# EAGLE library part VCNL4040 (library FlashPCB_Sensors)
VCNL4040M3OE -Optical Sensor Ambient 550nm IÃƒÆ’Ã¢â‚¬Å¡Ãƒâ€šÃ‚Â²C 8-SMD Module Technical Specifications: Voltage Supply: 2.5v - 3.6v Component Search: [DATA SHEET NAME] <[FLASHPCB URL]> Datasheet: vcnl4040.pdf <https://www.vishay.com/docs/84274/vcnl4040.pdf>
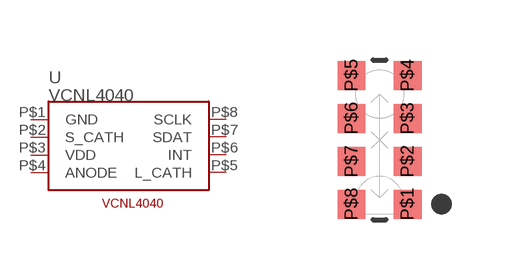
[diagram p29: symbol with the pads of VCNL4040M3OE; footprint VCNL4040M3OE]

Designator prefix U

## VCNL4040  [VCNL4040M3OE]
P$1  GND  pwr
P$2  S_CATH
P$3  VDD  pwr
P$4  ANODE
P$5  L_CATH
P$6  INT
P$7  SDAT
P$8  SCLK

## Footprint VCNL4040M3OE (pad centres in mm)
smd 0.7 x 0.725: P$1 0.7,-1.613; P$2 0.7,-0.537; P$3 0.7,0.537; P$4 0.7,1.613; P$5 -0.7,1.613; P$6 -0.7,0.537; P$7 -0.7,-0.537; P$8 -0.7,-1.613